# Altium schematic symbol library schematic_hall_library.SchLib: 42 symbols
Pins are listed as number, name and electrical type; pins without a type are passive.

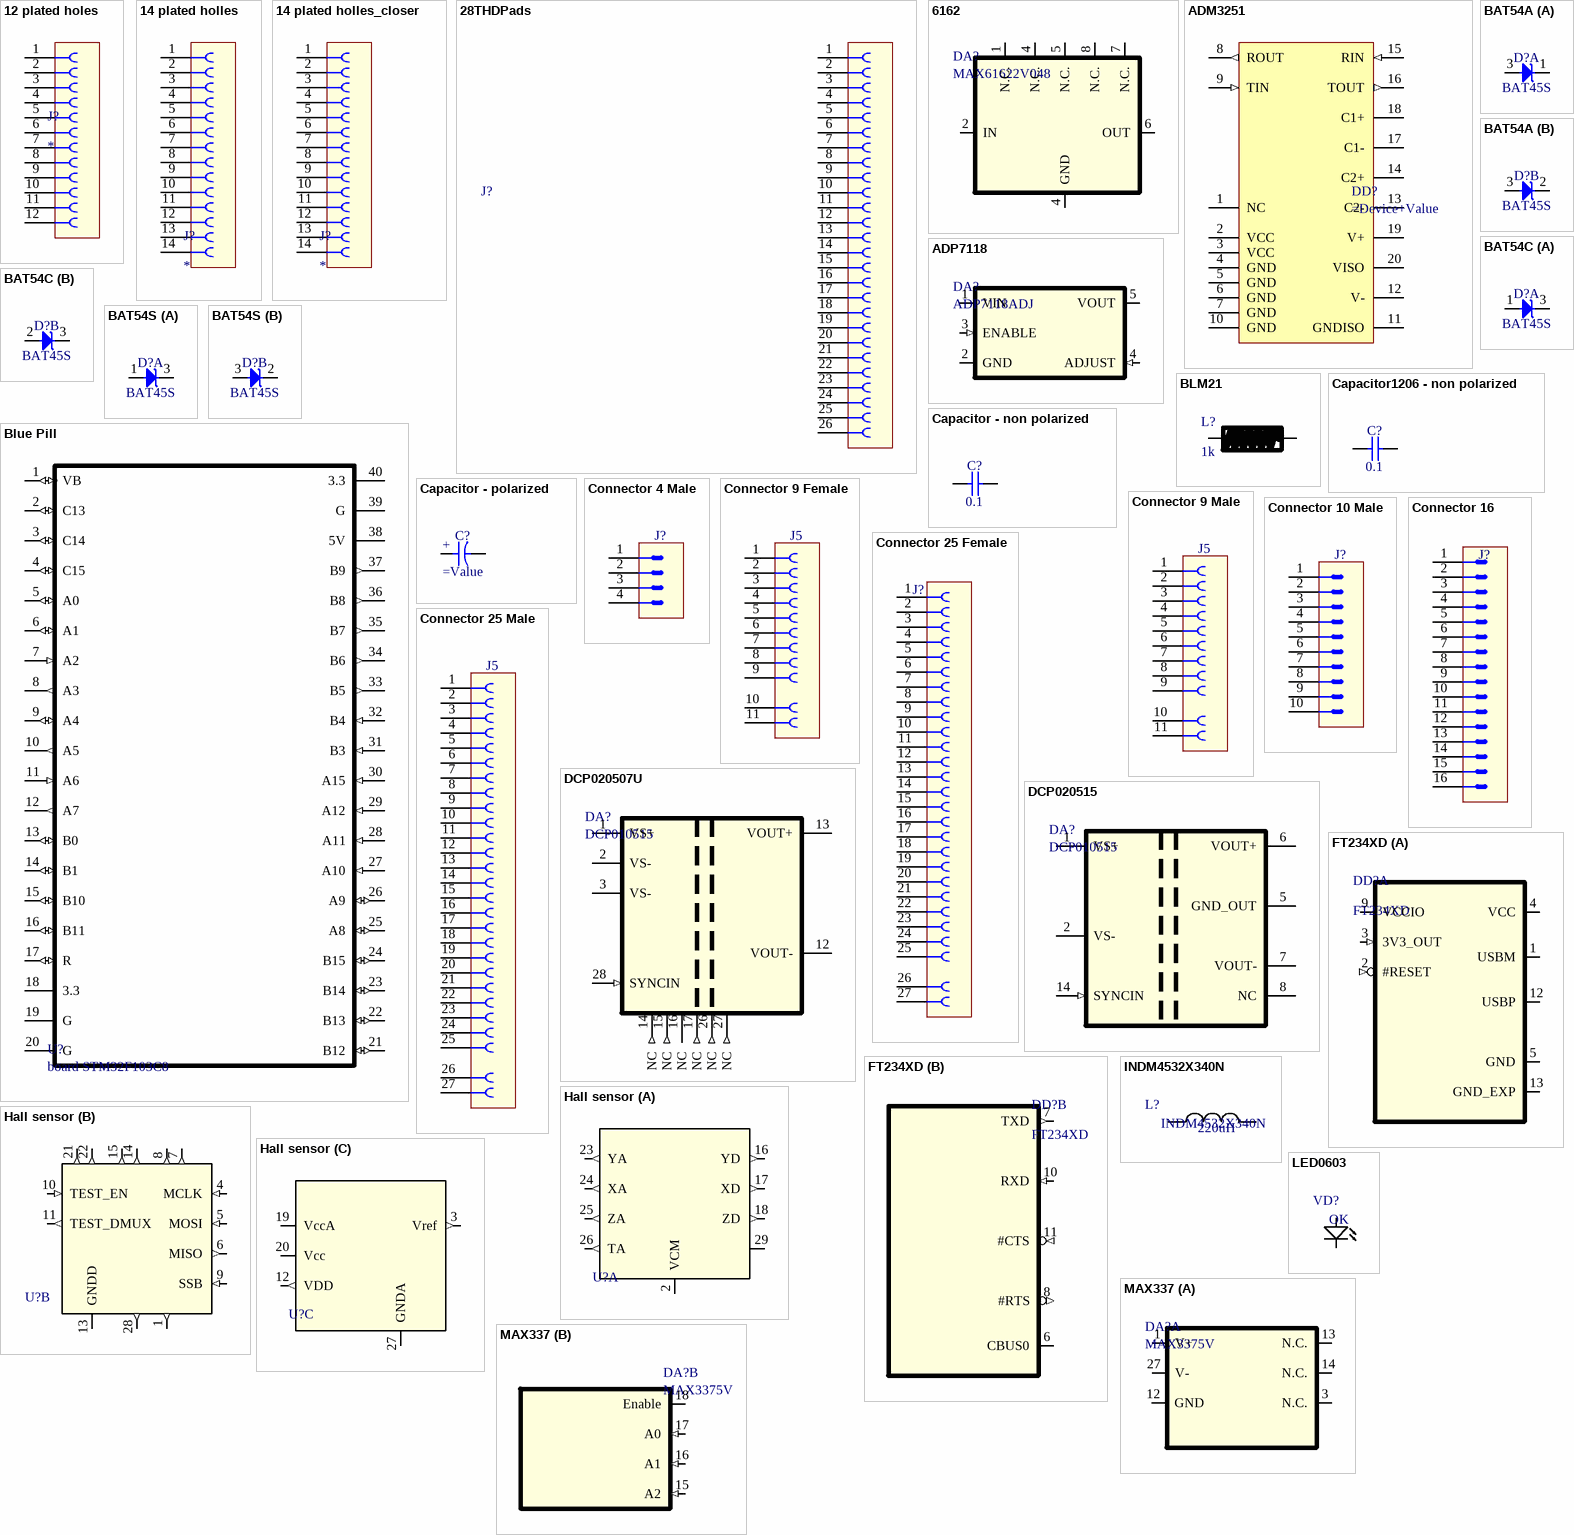
[diagram p0: symbols 12 plated holes to MAX337]

## 12 plated holes
designator J?
footprint 12Holes
pins: 1, 2, 3, 4, 5, 6, 7, 8, 9, 10, 11, 12

## 14 plated holles
designator J?
footprint 14 Holes
pins: 1, 2, 3, 4, 5, 6, 7, 8, 9, 10, 11, 12, 13, 14

## 14 plated holles_closer
designator J?
footprint 14 Holes - closer
pins: 1, 2, 3, 4, 5, 6, 7, 8, 9, 10, 11, 12, 13, 14

## 28THDPads
designator J?  (value not drawn)
footprint PCBComponent_1
pins: 1, 2, 3, 4, 5, 6, 7, 8, 9, 10, 11, 12, 13, 14, 15, 16, 17, 18, 19, 20, 21, 22, 23, 24, 25, 26

## 6162
designator DA?, comment MAX61622V048
Positive LDO Linear stabilizer; Vendor: Maxim; Value: 2V048; SMD Solder: 8; THD Solder: 0; Device: MAX6162; Unit Price: 2000; Package: SOIC_8; SolderOption: 0
footprint SO8 (SOIC 8, Pitch 1.27mm - Body 4x5mm, IPC Medium Density)
pins: 1 N.C. "Do not connect", 2 IN (power) "Input voltage", 4 N.C. "Do not connect", 4 GND (power) "Ground", 5 N.C. "Do not connect", 6 OUT (power) "Output", 7 N.C. "Do not connect", 8 N.C. "Do not connect"

## ADM3251
designator DD?
Driver UART-RS232; Vendor: Analog Devices; Device: ADM3251; SMD Solder: 20; THD Solder: 0; Unit_Price: 1200; Unit Price: 6; Package: SOICW20; SolderOption: 0
footprint SOIC127P1032X265-20N (SOIC, 1.27mm pitch; 20 pin, 7.50mm W X 12.80mm L X 2.65mm H body, IPC Medium Density)
pins: 1 NC, 2 VCC (power), 3 VCC (power), 4 GND (power), 5 GND (power), 6 GND (power), 7 GND (power), 8 ROUT (out), 9 TIN (in), 10 GND (power), 11 GNDISO (power), 12 V- (power), 13 C2-, 14 C2+, 15 RIN (in), 16 TOUT (out), 17 C1-, 18 C1+, 19 V+ (power), 20 VISO (power)

## ADP7118
designator DA?, comment ADP7118ADJ
Positive LDO Linear stabilizer; Vendor: Analog Devoces; Value: ADJ; SMD Solder: 5; THD Solder: 0; Device: ADP7118; Unit Price: 100; Package: SOT23-5; SolderOption: 0
footprint SOT95P270X145-5N (SOT, 0.95mm Pitch; 5 Pin,1.55mm W X 2.90mm L X 1.45mm H body, IPC Medium Density)
pins: 1 VIN (power) "Vin 2.1,,16V", 2 GND (power) "Groung", 3 ENABLE (in) "Enable  activ H", 4 ADJUST (in), 5 VOUT (power) "Vout"

## BAT54A
designator D?, comment BAT45S
Serial Shottky Diode; SMD Solders: 3; THD Sollders: 0; Vendor: NXP; Unut Price: 10; Device: BAT45S; Package: SOT23
footprint SOT-23
part A pins: 1 C, 3 A
part B pins: 2 C, 3 A

## BAT54C
designator D?, comment BAT45S
Common Cathode 2 Shottky Diode; SMD Solders: 3; THD Sollders: 0; Vendor: NXP; Unut Price: 10; Device: BAT45S; Package: SOT23
footprint SOT-23
part A pins: 1 A, 3 C
part B pins: 2 A, 3 C

## BAT54S
designator D?, comment BAT45S
Serial Shottky Diode; SMD Solders: 3; THD Sollders: 0; Vendor: NXP; Unut Price: 10; Device: BAT45S; Package: SOT23
footprint SOT-23
part A pins: 1 A, 3 COM
part B pins: 2 C, 3 COM

## BLM21
designator L?, comment 1k
SMD Ferrite bead 0805; Device: BLM21; Vendor: Vishay; Unit Price: 0.1; Package: SMD0805; Value: 1k
footprint RESC2012X50N (Chip Resistor, EIA 0805, Metric 2012, Body 2.0x1.25mm, IPC Medium Density)
pins: 1 "Any pin", 2 "Any pin"

## Blue Pill
designator U?, comment board STM32F103C8
Blue Pill board; Vendor: STM; Pkg: DIP40; SMD Solders: 0; THD Solders: 40; Value: STM32; SolderOption: 0
footprint blue_pill (STM 32F103 board)
pins: 1 VB (io), 2 C13 (io), 3 C14 (io), 4 C15 (io), 5 A0 (io), 6 A1 (io), 7 A2 (in), 8 A3 (out), 9 A4 (io), 10 A5 (out), 11 A6 (in), 12 A7 (out), 13 B0 (io), 14 B1 (io), 15 B10 (io), 16 B11 (io), 17 R (io), 18 3.3 (power), 19 G (power), 20 G (power), 21 B12 (io), 22 B13 (io), 23 B14 (io), 24 B15 (io), 25 A8 (io), 26 A9 (io), 27 A10 (in), 28 A11 (in), 29 A12 (in), 30 A15 (in), 31 B3 (in), 32 B4 (in), 33 B5 (out), 34 B6 (out), 35 B7 (out), 36 B8 (out), 37 B9 (out), 38 5V (power), 39 G (power), 40 3.3 (power)

## Capacitor1206 - non polarized
designator C?, comment 0.1
Non-polarised1206 capacitor; SolderOption: 0; SMD Solders: 2; Dielectric type: X5R; Vendor: any; Value: 0.1; THD Solders: 0
footprint CAPC3216X100N (Chip Capacitor, Body 3.2x1.6mm, IPC Medium Density)
pins: 1, 2

## Capacitor - non polarized
designator C?, comment 0.1
Non-polarised capacitor2012; SolderOption: 0; SMD Solders: 2; Dielectric type: X5R; Vendor: any; Value: 0.1; THD Solders: 0
footprint CAPC2012X90N (Chip Capacitor, Body 2.0x1.25mm, IPC Medium Density)
pins: 1, 2

## Capacitor - polarized
designator C?
Polarised capacitor
footprint CAPMP3528X120N (Capacitor, Polarized, Molded  Body 3.5x2.8mm, IPC Medium Density)
pins: 1, 2
text: +

## Connector 4 Male
designator J?
Connector 4 Male; THD Solders: 4; SMD Solders: 0; Vendor: Molex; Value: WF4; SolderOption: 0
footprint MOLEX_22-27-2041 (2.54mm (.100") Pitch KK® Header, Single Row, Vertical, 4 Circuits)
pins: 1, 2, 3, 4
1 alternate drawing of the same symbol

## Connector 9 Female
designator J5
Connector 9 Female; Solder Option: 0; THD Solders: 11; SMD Solders: 0; Vendor: *; Value: *
footprint TYCO_5747844-5 (Right Angle 9 Female Contacts D-SUB Connector With PCB Mount Retention , Grounding Straps, and Fixed UNC 4-40 Female Screwlocks)
pins: 1, 2, 3, 4, 5, 6, 7, 8, 9, 10, 11
1 alternate drawing of the same symbol

## Connector 9 Male
designator J5
Connector 9 Male; Solder Option: 0; THD Solders: 11; SMD Solders: 0; Vendor: *; Value: *
footprint AMPHENOL_L717DFE09P1ATN (Right Angled D-Sub 9 Male Contacts with Metal Bracket and Front Female Screwlock (UNC4-40))
pins: 1, 2, 3, 4, 5, 6, 7, 8, 9, 10, 11
1 alternate drawing of the same symbol

## Connector 10 Male
designator J?
Connector 10 Male; THD Solders: 10; SMD Solders: 0; Solder Option: *; Value: *; Vendor: *
footprint 3M_N2510-6002RB (10 Contacts - Straight .100" x .100" Low Profile Four-Wall Header)
pins: 1, 2, 3, 4, 5, 6, 7, 8, 9, 10
1 alternate drawing of the same symbol

## Connector 16
designator J?
Connector 16; Solder Option: 0; THD Solders: 16; SMD Solders: 0; Vendor: *; Value: *
footprint 3M_N2516-5002RB (16 Contacts - Right Angle .100" x .100" Low Profile Four-Wall Header)
pins: 1, 2, 3, 4, 5, 6, 7, 8, 9, 10, 11, 12, 13, 14, 15, 16
1 alternate drawing of the same symbol

## Connector 25 Female
designator J?
Connector 25 Female; Solder Option: 0; THD Solders: 27; SMD Solders: 0; Vendor: *; Value: *
footprint TYCO_3-1634586-2 (Right Angle 25 Female Contacts D-SUB Connector With Boardlock and 4-40 UNC Screwlocks)
pins: 1, 2, 3, 4, 5, 6, 7, 8, 9, 10, 11, 12, 13, 14, 15, 16, 17, 18, 19, 20, 21, 22, 23, 24, 25, 26, 27
1 alternate drawing of the same symbol

## Connector 25 Male
designator J5
Connector 25 Male; Solder Option: 0; THD Solders: 27; SMD Solders: 0; Vendor: *; Value: *
footprint TYCO_3-1634582-2 (Right Angle 25 Male Contacts D-SUB Connector With Boardlock and 4-40 UNC Screwlocks)
pins: 1, 2, 3, 4, 5, 6, 7, 8, 9, 10, 11, 12, 13, 14, 15, 16, 17, 18, 19, 20, 21, 22, 23, 24, 25, 26, 27
1 alternate drawing of the same symbol

## DCP020507U
designator DA?, comment DCP010515
DC/DC 5V to isolated +-7V; Vendor: Texas Instruments; Copyright: Copyright (C) 2022 Ultra Librarian. All rights reserved.; Value: DCP010515; Price: 1000
footprint SOIC127P1033X265-12_28N (SOIC, Pitch 1.27mm; 12 Pin of 28, 7.50mm W X 17.90mm L X 2.65mm H body, IPC Medium Density)
pins: 1 VS+ (power), 2 VS- (power), 3 VS- (power), 12 VOUT- (power), 13 VOUT+ (power), 14 NC (out), 15 NC (out), 16 NC, 17 NC (out), 26 NC (out), 27 NC (out), 28 SYNCIN (in)

## DCP020515
designator DA?, comment DCP010515
DC/DC 5V to isolated +-15V; Vendor: Texas Instruments; Copyright: Copyright (C) 2022 Ultra Librarian. All rights reserved.; Value: DCP010515; Price: 1000
footprint NVA7
pins: 1 VS+ (power), 2 VS- (power), 5 GND_OUT (power) "Out GND", 6 VOUT+ (power), 7 VOUT- (power), 8 NC, 14 SYNCIN (in)

## FT234XD
designator DD?
USB-UART driver; Vendor: FTDI; SMD Solders: 7; THD Solders: 0; Device: FT234XD; Package: DFN_12-0.45; Unit Price: 2
footprint DFN_12-045 (0.45mm pitch 12pin)
part A pins: 1 USBM (io) "USB diff IO negativ", 2 #RESET (in) "RESET", 3 3V3_OUT (in) "Power out to Peripheria", 4 VCC (power) "FT234 Power", 5 GND (power) "FT234 GND", 9 VCCIO (power) "UART ifc Power", 12 USBP (io) "USB diff IO positiv", 13 GND_EXP (power) "Chip GND exp pad"
part B pins: 6 CBUS0 (io) "Multifunc pin", 7 TXD (out) "UART TX", 8 #RTS (out) "UART #RTS", 10 RXD (in) "UART RX", 11 #CTS (in) "UART #CTS"

## Hall sensor
designator U?  (value not drawn)
SENM3Dx Vertical Hall Sensor
footprint QFN50P500X500X100-29N-S325 (QFN, 0.50mm Pitch, Square; 28 pin, 5.00mm L X 5.00mm W X 1.00mm H body (w/thermal tab 3.25 X 3.25mm),  IPC Medium Density)
part A pins: 2 VCM (power), 16 YD (out), 17 XD (out), 18 ZD (out), 23 YA (out), 24 XA (out), 25 ZA (out), 26 TA (out), 29
part B pins: 1 (out), 4 MCLK (in), 5 MOSI (in), 6 MISO (out), 7 (out), 8 (out), 9 SSB (in), 10 TEST_EN (in), 11 TEST_DMUX (out), 13 GNDD (power), 14 (out), 15 (out), 21 (out), 22 (out), 28 (out)
part C pins: 3 Vref (out), 12 VDD (out), 19 VccA (power), 20 Vcc (power), 27 GNDA (power)

## INDM4532X340N
designator L?  Inductance: 220uH
SMD Дроссель; Vendor: Sumida; Curent: 0.5A; Price: 100; Value: INDM4532X340N
footprint INDM4532X340N (Inductor, Molded Body; 4.5mm L X 3.2mm W, IPC Medium Density)
pins: 1, 2

## LED0603
designator VD?, comment OK
Чип светодиод 0603; Vendor: KB; Color: Green; SolderOpton: Norm; Price: 20; Value: OK
footprint LED0603 (Chip LED 0603, Body 2.25x1mm)
pins: 1 Cathode, 2 Anode

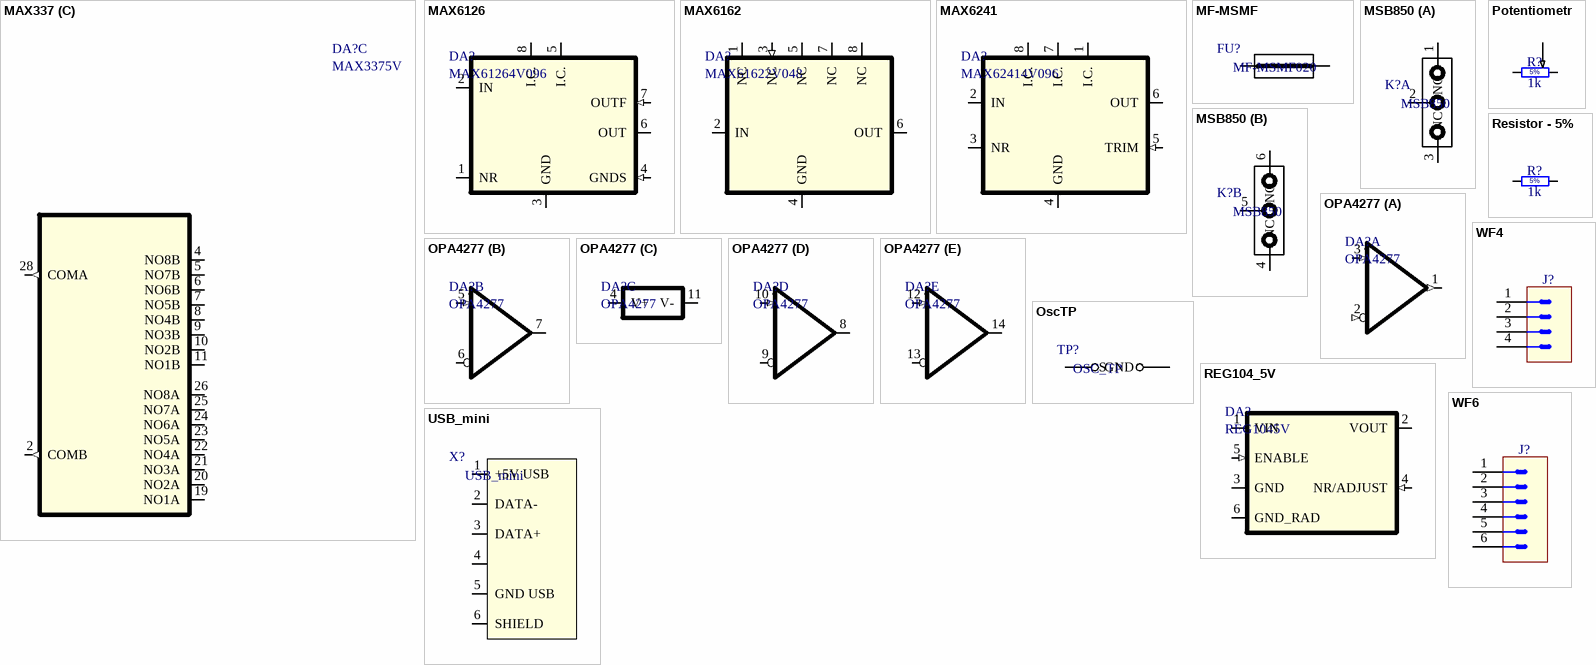
[diagram p1: symbols MAX337 to WF6]

## MAX337
designator DA?, comment MAX3375V
Positive LDO Linear stabilizer; Vendor: Texas Instruments; Device: MAX337; Value: 5V; SMD Solder: 6; THD Solder: 0; Unit Price: 6; Package: SOT223-6; SolderOption: 0
footprint SOIC127P1030X265-28N (SOIC,1.27mm, Pitch;28 Pin, 7.50mm W X 17.90mm L X 2.65mm H body, IPC Medium Density)
part A pins: 1 V+ (power) "Vin 2.1,,16V", 3 N.C. "Vout", 12 GND (power) "Groung", 13 N.C. "Vout", 14 N.C. "Vout", 27 V- (power) "Enable  activ H"
part B pins: 15 A2 (in), 16 A1 (in), 17 A0 (in), 18 Enable (io)
part C pins: 2 COMB (out), 4 NO8B, 5 NO7B, 6 NO6B, 7 NO5B, 8 NO4B, 9 NO3B, 10 NO2B, 11 NO1B, 19 NO1A, 20 NO2A, 21 NO3A, 22 NO4A, 23 NO5A, 24 NO6A, 25 NO7A, 26 NO8A, 28 COMA (out)

## MAX6126
designator DA?, comment MAX61264V096
Reference LDO Linear stabilizer; Vendor: Maxim; Value: 4V096; SMD Solder: 8; THD Solder: 0; Device: MAX6126; Unit Price: 2000; Package: SOIC_8; SolderOption: 0
footprint SO8 (SOIC 8, Pitch 1.27mm - Body 4x5mm, IPC Medium Density)
pins: 1 NR "Noise reduction", 2 IN (power) "Input voltage", 3 GND (power) "Ground", 4 GNDS (in) "Load ground", 5 I.C. "Internaly connected", 6 OUT (power) "Output", 7 OUTF (in) "Bypass 0.1-10.0 to GND", 8 I.C. "Internaly connected"

## MAX6162
designator DA?, comment MAX61622V048
Reference LDO Linear stabilizer; Vendor: Maxim; Value: 2V048; SMD Solder: 8; THD Solder: 0; Device: MAX6162; Unit Price: 2000; Package: SOIC_8; SolderOption: 0
footprint SO8 (SOIC 8, Pitch 1.27mm - Body 4x5mm, IPC Medium Density)
pins: 1 NC "Do not connected", 2 IN (power) "Input voltage DropOut 500mV", 3 NC (in) "Do not connected", 4 GND (power) "Ground", 5 NC "Do not connected", 6 OUT (power) "Output", 7 NC "Do not connected", 8 NC "Internaly connected"

## MAX6241
designator DA?, comment MAX62414V096
Refrrence LDO Linear stabilizer; Vendor: Maxim; Value: 4V096; SMD Solder: 8; THD Solder: 0; Device: MAX6241; Unit Price: 2000; Package: SOIC_8; SolderOption: 0
footprint SO8 (SOIC 8, Pitch 1.27mm - Body 4x5mm, IPC Medium Density)
pins: 1 I.C. (power) "Vin 2.1,,16V", 2 IN (power) "Vout", 3 NR, 4 GND (power) "Groung", 5 TRIM (in) "Enable  activ H", 6 OUT (power) "Radiator", 7 I.C. (power) "Vin 2.1,,16V", 8 I.C. "Vin 2.1,,16V"

## MF-MSMF
designator FU?, comment MF-MSMF020
Предохранитель самовосстанавливающийся; Vendor: Bourns; SolderOption: Norm; Price: 20; Value: MF-MSMF020
footprint MSMF020
pins: 1, 2

## MSB850
designator K?
Кнопка с фиксацией 2xSPDT; SolderOption: Norm; Price: 1; Vendor: *; Value: MSB850
footprint MSB850 (Body 8.8x8.8mm, Straight PCB Mounting  SubminiatureToggle SPDT Switch)
part A pins: 1 NO "Normaly Open", 2 Cetnter, 3 NC "Normaly Closed"
part B pins: 4 NC "Normaly Closed", 5 Cetnter, 6 NO "Normaly Open"

## OPA4277
designator DA?
счетверённый ОУ; Vendor: Texas Instruments; Voltage: 3..30V/+-1.5..+-15V; Bandwidth: 1.3MHz; SolderOption: Norm; Value: OPA4277
footprint SOIC14 (SOIC 14, Pitch 1.27mm - Body 4x8.75mm, IPC Medium Density)
part A pins: 1 OUT (out) "Output 2", 2 - (in) "Inv. input 1", 3 + (in) "No inv input 1"
part B pins: 5 + (in) "No inv input 2", 6 - "Inv. Input 2", 7 OUT "Output 2"
part C pins: 4 V+ (power) "Positive pow. supl.", 11 V- (power) "Negative pow. sup."
part D pins: 8 OUT "Output 2", 9 - "Inv. Input 2", 10 + (in) "No inv input 2"
part E pins: 12 + (in) "No inv input 2", 13 - "Inv. Input 2", 14 OUT "Output 2"

## OscTP
designator TP?, comment OSC_TP
Контрольная точка для подключения осциллографа короткой землёй; Vendor: PCB; Price: 0; Value: OSC_TP; SolderOption: PCB
footprint TP2
pins: 1 S, 2 GND

## Potentiometr
designator R?, comment 1k
Potentiometr Bourns 3296; Vendor: any; SMD Solders: 2; THD Solders: 0; Tolerance: 5%; TK: 1000ppmC^(-1); Value: 1k; SolderOption: 0
footprint TRIM_BOURNS_3296Y_modified (Trimming Potentiometer BOURNS 3296Y Series)
pins: 1, 2, 3

## REG104_5V
designator DA?, comment REG1045V
Positive LDO Linear stabilizer; Vendor: Texas Instruments; Device: REG104; Value: 5V; SMD Solder: 6; THD Solder: 0; Unit Price: 6; Package: SOT223-6; SolderOption: 0
footprint SOT223_6-127 (1.27mm pitch 20pin = DCQ6-M(ti))
pins: 1 VIN (power) "Vin 2.1,,16V", 2 VOUT (power) "Vout", 3 GND (power) "Groung", 4 NR/ADJUST (in), 5 ENABLE (in) "Enable  activ H", 6 GND_RAD (power) "Radiator"

## Resistor - 5%
designator R?, comment 1k
Resistor - 5%; Vendor: any; SMD Solders: 2; THD Solders: 0; TK: 1000ppmC^(-1); Value: 1k; SolderOption: 0; Tolerance: 5%
footprint RESC2012X70N (Chip Resistor, EIA 0805, Metric 2012, Body 2.0x1.25mm, IPC Medium Density)
pins: 1, 2

## USB_mini
designator X?
Вилка  PLS 6x2.54; Vendor: TE Connectivity; SolderOption: Norm; Price: 50; Value: USB_mini
footprint TYCO_1734035-1 (SMD, Right Angle, 5 Position, Type B, Mini USB Receptacle)
pins: 1 +5V USB "Ground", 2 DATA- "Ground", 3 DATA+ "Ground", 4 "Ground", 5 GND USB "Ground", 6 SHIELD "Ground"

## WF4
designator J?
Connector 4 Male; THD Solders: 4; SMD Solders: 0; Vendor: Molex; Value: WF4; SolderOption: 0
footprint MOLEX_22-27-2041 (2.54mm (.100") Pitch KK® Header, Single Row, Vertical, 4 Circuits)
pins: 1, 2, 3, 4
1 alternate drawing of the same symbol

## WF6
designator J?
Connector 4 Male; THD Solders: 4; SMD Solders: 0; Vendor: Molex; Value: WF6; SolderOption: 0
footprint MOLEX_22-27-2061 (2.54mm (.100") Pitch KK® Header, Single Row, Vertical, 6 Circuits)
pins: 1, 2, 3, 4, 5, 6
1 alternate drawing of the same symbol